# EAGLE library part SWITCH,8PST-SERIAL (library QuantumOptics)
Analog switch, 8PST, serial, such as ADG1414.
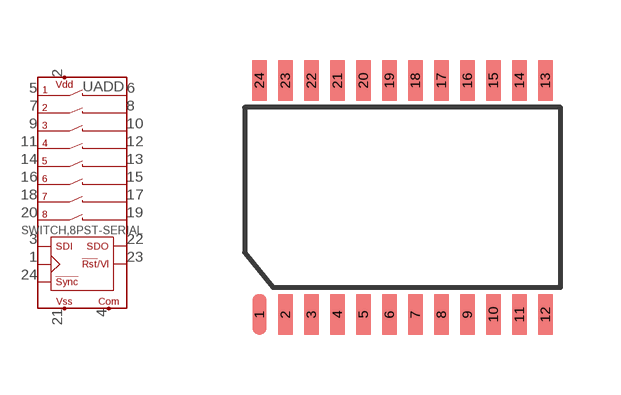
[diagram p229: symbol with the pads of TSSOP-24; footprint TSSOP-24]

Designator prefix UADD

## SWITCH,8PST-SERIAL-TSSOP24  [TSSOP-24]
1  SCLK  in
2  VDD
3  DIN  in
4  COM
5  S1
6  D1
7  S2
8  D2
9  S3
10  D3
11  S4
12  D4
13  D5
14  S5
15  D6
16  S6
17  D7
18  S7
19  D8
20  S8
21  VSS
22  SDO  out
23  !RST!/VL  in
24  !SYNC  in

## Footprint TSSOP-24 (pad centres in mm)
TSSOP-24, pins 0.65mm c-c spacing, nominal 6.4mm pins max W.
smd 0.356 x 1.016: 1 -3.575,-2.925; 2 -2.925,-2.925; 3 -2.275,-2.925; 4 -1.625,-2.925; 5 -0.975,-2.925; 6 -0.325,-2.925; 7 0.325,-2.925; 8 0.975,-2.925; 9 1.625,-2.925; 10 2.275,-2.925; 11 2.925,-2.925; 12 3.575,-2.925; 13 3.575,2.925; 14 2.925,2.925; 15 2.275,2.925; 16 1.625,2.925; 17 0.975,2.925; 18 0.325,2.925; 19 -0.325,2.925; 20 -0.975,2.925; 21 -1.625,2.925; 22 -2.275,2.925; 23 -2.925,2.925; 24 -3.575,2.925